# EAGLE library part THS4532 (library ICs)
THS4532 Ultra Low Power, Rail-to-Rail Output, Fully-Differential Amplifier
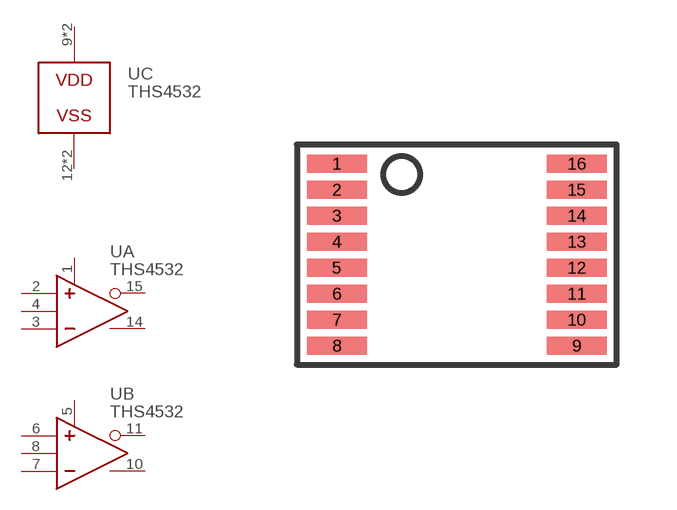
[diagram p174: symbol with the pads of TSSOP16; footprint TSSOP16]

Designator prefix U; gates A=OPAMP_DIFF B=OPAMP_DIFF C=PWR

## THS4532IPW (DIGIKEY: 296-39813-5-ND; HEIGHT: 1.2; PRICE_PER: 3.65; VALUE: THS4532)  [TSSOP16]
1  A:!PD
2  A:IN+
3  A:IN-
4  A:VCOM
5  B:!PD
6  B:IN+
7  B:IN-
8  B:VCOM
9  C:V+
10  B:OUT+
11  B:OUT-
12  C:GND
13  C:V+
14  A:OUT+
15  A:OUT-
16  C:GND

## Footprint TSSOP16 (pad centres in mm)
smd 1.5 x 0.45: 1 -3,2.275; 2 -3,1.625; 3 -3,0.975; 4 -3,0.325; 5 -3,-0.325; 6 -3,-0.975; 7 -3,-1.625; 8 -3,-2.275; 9 3,-2.275; 10 3,-1.625; 11 3,-0.975; 12 3,-0.325; 13 3,0.325; 14 3,0.975; 15 3,1.625; 16 3,2.275